# Altium footprint library SK3245SL1A.PcbLib: 1 footprints
Each footprint in its own frame and in the unit in brackets; x right, y up, seen from the top. Pads: shape width x height; smd on the part's side, far side on the other; paste and mask are expansions set on the pad; w line width, h text height; cw(c..) or ccw(c..) is an arc to the next point about the centre after c.
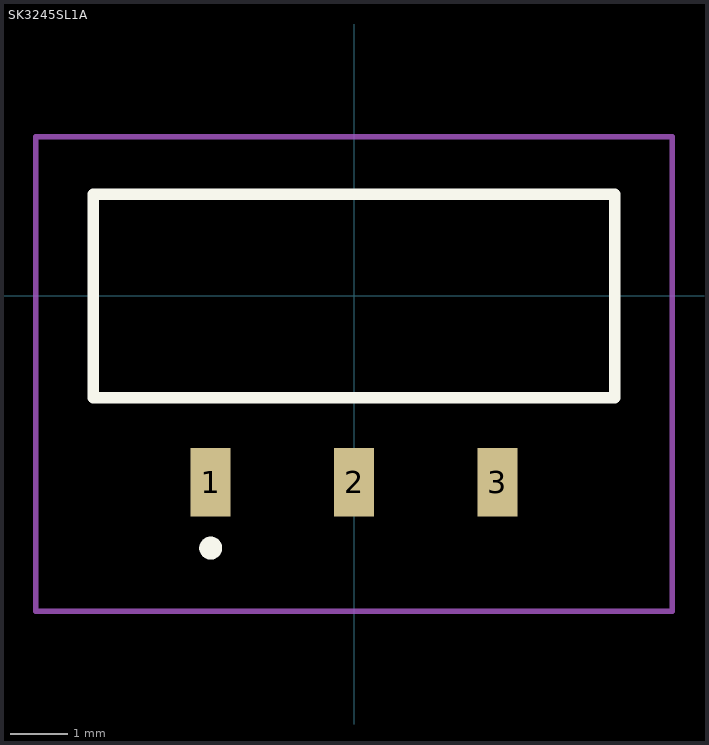
[diagram p0: the footprint, top view; thin cyan lines are the x and y axes]

## SK3245SL1A [mm]
pads (3):
  rect 0.7x1.2 smd: 1(-2.5,-3.25) 2(0,-3.25) 3(2.5,-3.25)
Top Overlay:
  lines w0.2: -4.55,-1.775 4.55,-1.775 4.55,1.775 -4.55,1.775 -4.55,-1.775 ; -2.6,-4.4 ccw(c-2.5,-4.4) -2.4,-4.4 ccw(c-2.5,-4.4) -2.6,-4.4
Mechanical 15:
  lines w0.1: -4.55,-1.775 4.55,-1.775 4.55,1.775 -4.55,1.775 -4.55,-1.775
Mechanical 20:
  lines w0.1: -5.55,-5.5 5.55,-5.5 5.55,2.775 -5.55,2.775 -5.55,-5.5
3D body "SK-3245S-L1-A.stp": height 3.2, standoff -0.35, extent -4.55,-3.623 4.55,3.877